# EAGLE library part CAY17-103JALF (library CAY17-103JALF)
Check prices <https://pricing.snapeda.com/parts/CAY17-103JALF/Bourns/view-part?ref=eda>
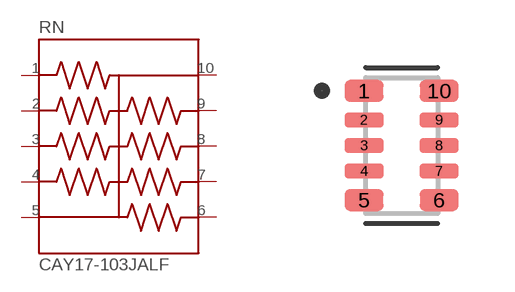
[diagram p0: symbol with the pads of RESCAXS64P320X160X60-10N; footprint RESCAXS64P320X160X60-10N]

Designator prefix RN

## CAY17-103JALF (Availability: In Stock; Description: 10k Ohm ±5% 62.5mW Power Per Element Bussed 8 Resistor Network/Array ±250ppm/°C 1206 (3216 Metric), Convex, Long Side Terminals; MF: Bourns; MP: CAY17-103JALF; Package: 1206 Bourns; Price: None; Purchase-URL: https://pricing.snapeda.com/search/part/CAY17-103JALF/?ref=eda)  [RESCAXS64P320X160X60-10N]
1  1  pas
2  2  pas
3  3  pas
4  4  pas
5  5  pas
6  6  pas
7  7  pas
8  8  pas
9  9  pas
10  10  pas

## Footprint RESCAXS64P320X160X60-10N (pad centres in mm)
smd 0.97 x 0.54: 1 -0.94,1.365; 5 -0.94,-1.365; 6 0.94,-1.365; 10 0.94,1.365
smd 0.97 x 0.37: 2 -0.94,0.64; 3 -0.94,0; 4 -0.94,-0.64; 7 0.94,-0.64; 8 0.94,0; 9 0.94,0.64